# EAGLE library part 854655 (library sawtek)
70 MHz Bandpass filter 2.5 MHz Bandwidth Low insertion loss family Insertion loss @ Fo= 8.75 dB typ. 1 dB Bandwidth 2.2 MHz 3 dB Bandwidth 2.59 MHz Bandpass Ripple 0.65 dB Impedance matching +------------ L1 ----- [SAW]---- L2 ------ | | src 50R | GND // to load & source use capacitor C1 & C2 L1= 150 nH C1= 100 pF L2= 150 nH C2= 47 pF http://www.triquint.com/company/divisions/sawtek/docs/854651/854651.pdf
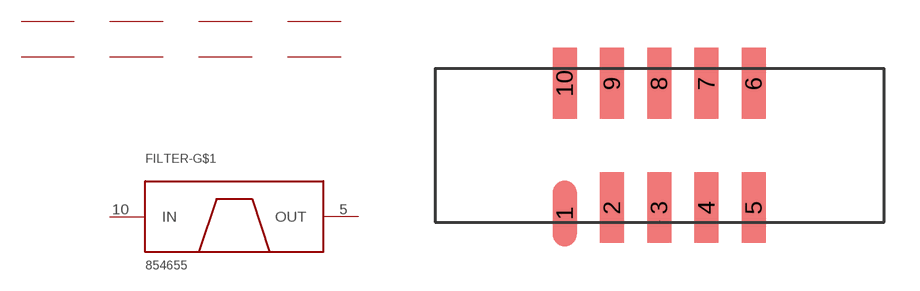
[diagram p26: symbol with the pads of SMP-75B; footprint SMP-75B]

Designator prefix FILTER-; gates G$1=BP G$2=GND G$3=GND G$4=GND G$5=GND G$6=GND G$7=GND G$8=GND G$9=GND

## 854655  [SMP-75B]
1  G$2:GND  pwr
2  G$3:GND  pwr
3  G$4:GND  pwr
4  G$5:GND  pwr
5  G$1:OUT
6  G$6:GND  pwr
7  G$7:GND  pwr
8  G$8:GND  pwr
9  G$9:GND  pwr
10  G$1:IN

## Footprint SMP-75B (pad centres in mm)
Surface mount package http://www.triquint.com/company/divisions/sawtek/docs/packages/smp75.pdf
smd 1.02 x 2.8: 1 5.485,0.372
smd 1.02 x 3: 2 7.485,0.623; 3 9.485,0.623; 4 11.485,0.623; 5 13.485,0.623; 6 13.485,5.872; 7 11.485,5.872; 8 9.485,5.872; 9 7.485,5.872; 10 5.485,5.872